# Altium footprint library Antenna.PcbLib: 3 footprints
Each footprint in its own frame and in the unit in brackets; x right, y up, seen from the top. Pads: shape width x height; smd on the part's side, far side on the other; paste and mask are expansions set on the pad; w line width, h text height; cw(c..) or ccw(c..) is an arc to the next point about the centre after c.
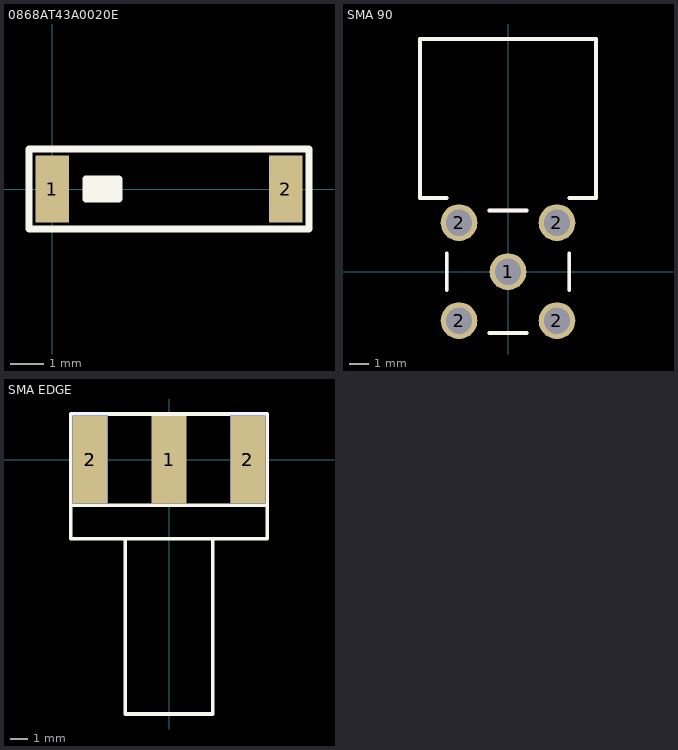
[diagram p0: the footprints below, top view; thin cyan lines are the x and y axes]

## 0868AT43A0020E [mm]
pads (2):
  rect 1x2 smd: 1(0,0) 2(7,0)
Top Overlay:
  lines w0.2: 1,0 1.2,-0.2 1.8,-0.2 2,0 ; 1,0 1.2,0.2 1.8,0.2 2,0 ; 1,0 2,0 ; 1,0 1,-0.3 2,-0.3 2,0.3 1,0.3 1,0 ; -0.7,-1.2 7.7,-1.2 7.7,1.2 -0.7,1.2 -0.7,-1.2
3D body: height 0.8, standoff 0, extent 0,-1 7,1

## SMA 90 [mil]
pads (5):
  round 75 hole 54: 1(0,0) 2(-100,-100) 2(-100,100) 2(100,-100) 2(100,100)
Top Overlay:
  lines w8: -125,-37.5 -125,37.5 ; -125,150 -180,150 -180,475 -125,475 125,475 180,475 180,150 125,150 ; -37.5,-125 37.5,-125 ; -37.5,125 37.5,125 ; 125,-37.5 125,37.5
Mechanical 1:
  lines w8: -125,-37.5 -125,37.5 ; -125,150 -180,150 -180,475 -125,475 125,475 180,475 180,150 125,150 ; -37.5,-125 37.5,-125 ; -37.5,125 37.5,125 ; 125,-37.5 125,37.5
3D body: height 388.19, standoff -167.12, extent -137.79,-137.79 137.8,456.7

## SMA EDGE [mm]
pads (5):
  rect 2x5 smd: 1(0,0) 2(-4.5,0) 2(4.5,0)
  rect 2x5 smd far side: 2(-4.5,0) 2(4.5,0)
Top Overlay:
  lines w0.2: -5.6,-2.6 5.6,-2.6 ; -2.5,-4.5 -2.5,-14.5 2.5,-14.5 2.5,-4.5 ; -5.6,-4.5 5.6,-4.5 5.6,2.6 -5.6,2.6 -5.6,-4.5